# EAGLE library part SN74AC86DBR (library SN74AC86DBR)
Quadruple 2-Input Exclusive-OR Gates Source: Datasheet <https://www.ti.com/lit/ds/symlink/sn74ac86.pdf?HQS=dis-dk-null-digikeymode-dsf-pf-null-wwe&ts=1618894237081>
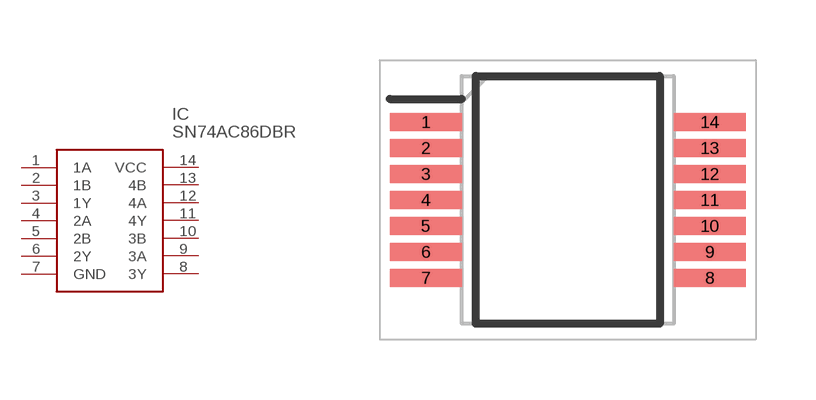
[diagram p0: symbol with the pads of SOP65P780X200-14N; footprint SOP65P780X200-14N]

Designator prefix IC

## SN74AC86DBR (Description: Quadruple 2-Input Exclusive-OR Gates; Height: 2mm; Manufacturer_Name: Texas Instruments; Manufacturer_Part_Number: SN74AC86DBR; Mouser_Part_Number: 595-SN74AC86DBR; Mouser_Price-Stock: https://www.mouser.com/Search/Refine.aspx?Keyword=595-SN74AC86DBR)  [SOP65P780X200-14N]
1  1A
2  1B
3  1Y
4  2A
5  2B
6  2Y
7  GND
8  3Y
9  3A
10  3B
11  4Y
12  4A
13  4B
14  VCC

## Footprint SOP65P780X200-14N (pad centres in mm)
DB (R-PDSO-G14)
smd 1.8 x 0.45: 1 -3.55,1.95; 2 -3.55,1.3; 3 -3.55,0.65; 4 -3.55,0; 5 -3.55,-0.65; 6 -3.55,-1.3; 7 -3.55,-1.95; 8 3.55,-1.95; 9 3.55,-1.3; 10 3.55,-0.65; 11 3.55,0; 12 3.55,0.65; 13 3.55,1.3; 14 3.55,1.95